# Altium footprint library Bat.PcbLib: 5 footprints
Each footprint in its own frame and in the unit in brackets; x right, y up, seen from the top. Pads: shape width x height; smd on the part's side, far side on the other; paste and mask are expansions set on the pad; w line width, h text height; cw(c..) or ccw(c..) is an arc to the next point about the centre after c.
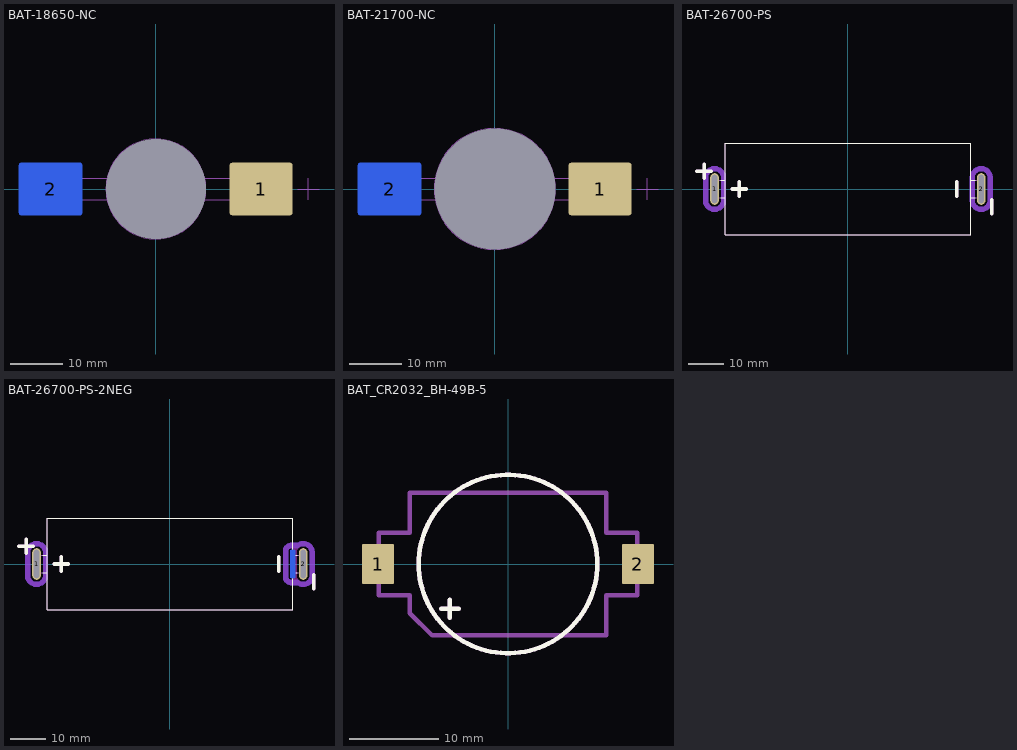
[diagram p0: the footprints below, top view; thin cyan lines are the x and y axes]

## BAT-18650-NC [mm] "Hole for 18650 with two solder Pads for FSCH nightcone project"
pads (3):
  rrect10% 12x10 smd paste-2539.97: 1(20,0)
  rrect10% 12x10 smd far side paste-2539.97: 2(-20,0)
  round 1.4 hole 19 unplated: M15(0,0)
Board:
  circle w0.1: c0,0 r9.5
  text "CUTOUT" at -1.602,9.162 h5
Top Assembly:
  lines w0.2: 27,0 31,0 ; 29,-2 29,2 ; 8.775,-2 cw(c0,0) 8.775,2 ; 8.775,-2 -2,-2 -2,2 8.775,2 ; 8.775,-2 24,-2 24,2 8.775,2
Bottom Assembly (Mech12):
  lines w0.2: -8.775,-2 ccw(c0,0) -8.775,2 ; -8.775,-2 -24,-2 -24,2 -8.775,2 ; -8.775,-2 2,-2 2,2 -8.775,2
3D body: height -57, standoff -57.5, extent -10.5,-2 -10,2
3D body: height 0.5, standoff 0, extent -10.5,-2 -10,2
3D body: height 8.5, standoff 8, extent 10,-2 10.5,2
3D body: height 0.5, standoff 0, extent 10,-2 10.5,2
3D body: height 8.5, standoff 8, extent -2,-2 10.25,2
3D body: height 0.5, standoff 0, extent 10.25,-2 24,2
3D body: height -57, standoff -57.5, extent -10.25,-2 2,2
3D body: height -10, standoff -57.25, extent -10.5,-2 -10,2
3D body: height 0.5, standoff 0, extent -24,-2 -10.25,2
3D body: height 40, standoff 0.25, extent -10.5,-2 -10,2
3D body: height 8.25, standoff 0.25, extent 10,-2 10.5,2
3D body: height 8, standoff -57, extent -9,-9 9,9

## BAT-21700-NC [mm] "Hole for 21700 with two solder Pads for FSCH nightcone project"
pads (3):
  rrect10% 12x10 smd paste-2539.97: 1(20,0)
  rrect10% 12x10 smd far side paste-2539.97: 2(-20,0)
  round 0 hole 23 unplated: M15(0,0)
Board:
  circle w0.1: c0,0 r11.5
  text "CUTOUT" at -1.922,10.995 h6
Top Assembly:
  lines w0.2: 10.308,-2 cw(c0,0) 10.308,2 ; 27,0 31,0 ; 29,-2 29,2 ; -2,-2 -2,2 8.775,2 24,2 24,-2 8.775,-2 -2,-2
Bottom Assembly (Mech12):
  lines w0.2: -10.305,2 -24,2 -24,-2 -10.295,-2 ; -10.308,-2 ccw(c0,0) -10.308,2 2,2 2,-2 -10.308,-2
3D body: height 8.25, standoff 0.25, extent 11.5,-2 12,2
3D body: height 40, standoff 0.25, extent -12,-2 -11.5,2
3D body: height 0.5, standoff 0, extent -24,-2 -11.75,2
3D body: height -10, standoff -62.25, extent -12,-2 -11.5,2
3D body: height -62, standoff -62.5, extent -11.75,-2 2,2
3D body: height 0.5, standoff 0, extent 11.75,-2 24,2
3D body: height 8.5, standoff 8, extent -2,-2 11.75,2
3D body: height 8, standoff -62, extent -10.5,-10.5 10.5,10.5
3D body: height 0.5, standoff 0, extent 11.5,-2 12,2
3D body: height 8.5, standoff 8, extent 11.5,-2 12,2
3D body: height 0.5, standoff 0, extent -12,-2 -11.5,2
3D body: height -62, standoff -62.5, extent -12,-2 -11.5,2

## BAT-26700-PS [mm]
pads (2):
  oval 2.5x9 hole 1.5 slot 8 at 90 deg: 1(-38,0) 2(38,0)
Top Layer keep-out:
  region: 41.25,-3.25 41.25,3.25 41.25,3.506 41.17,4.011 41.012,4.498 40.78,4.953 40.479,5.367 40.117,5.729 39.703,6.03 39.248,6.262 38.761,6.42 38.256,6.5 37.744,6.5 37.239,6.42 36.752,6.262 36.297,6.03 35.883,5.729 35.521,5.367 35.22,4.953 34.988,4.498 34.83,4.011 34.75,3.506 34.75,3.25 34.75,0 36.15,0 36.15,3.25 36.159,3.431 36.23,3.787 36.368,4.122 36.57,4.424 36.826,4.68 37.128,4.882 37.463,5.02 37.819,5.091 38.181,5.091 38.537,5.02 38.872,4.882 39.174,4.68 39.43,4.424 39.632,4.122 39.77,3.787 39.841,3.431 39.85,3.25 39.85,-3.25 39.841,-3.431 39.77,-3.787 39.632,-4.122 39.43,-4.424 39.174,-4.68 38.872,-4.882 38.537,-5.02 38.181,-5.091 37.819,-5.091 37.463,-5.02 37.128,-4.882 36.826,-4.68 36.57,-4.424 36.368,-4.122 36.23,-3.787 36.159,-3.431 36.15,-3.25 36.15,0 34.75,0 34.75,-3.25 34.75,-3.506 34.83,-4.011 34.988,-4.498 35.22,-4.953 35.521,-5.367 35.883,-5.729 36.297,-6.03 36.752,-6.262 37.239,-6.42 37.744,-6.5 38.256,-6.5 38.761,-6.42 39.248,-6.262 39.703,-6.03 40.117,-5.729 40.479,-5.367 40.78,-4.953 41.012,-4.498 41.17,-4.011 41.25,-3.506
  region: -41.25,3.25 -41.25,-3.25 -41.25,-3.506 -41.17,-4.011 -41.012,-4.498 -40.78,-4.953 -40.479,-5.367 -40.117,-5.729 -39.703,-6.03 -39.248,-6.262 -38.761,-6.42 -38.256,-6.5 -37.744,-6.5 -37.239,-6.42 -36.752,-6.262 -36.297,-6.03 -35.883,-5.729 -35.521,-5.367 -35.22,-4.953 -34.988,-4.498 -34.83,-4.011 -34.75,-3.506 -34.75,-3.25 -34.75,0 -36.15,0 -36.15,-3.25 -36.159,-3.431 -36.23,-3.787 -36.368,-4.122 -36.57,-4.424 -36.826,-4.68 -37.128,-4.882 -37.463,-5.02 -37.819,-5.091 -38.181,-5.091 -38.537,-5.02 -38.872,-4.882 -39.174,-4.68 -39.43,-4.424 -39.632,-4.122 -39.77,-3.787 -39.841,-3.431 -39.85,-3.25 -39.85,3.25 -39.841,3.431 -39.77,3.787 -39.632,4.122 -39.43,4.424 -39.174,4.68 -38.872,4.882 -38.537,5.02 -38.181,5.091 -37.819,5.091 -37.463,5.02 -37.128,4.882 -36.826,4.68 -36.57,4.424 -36.368,4.122 -36.23,3.787 -36.159,3.431 -36.15,3.25 -36.15,0 -34.75,0 -34.75,3.25 -34.75,3.506 -34.83,4.011 -34.988,4.498 -35.22,4.953 -35.521,5.367 -35.883,5.729 -36.297,6.03 -36.752,6.262 -37.239,6.42 -37.744,6.5 -38.256,6.5 -38.761,6.42 -39.248,6.262 -39.703,6.03 -40.117,5.729 -40.479,5.367 -40.78,4.953 -41.012,4.498 -41.17,4.011 -41.25,3.506
Bottom Layer keep-out:
  region: 41.25,-3.25 41.25,3.25 41.25,3.506 41.17,4.011 41.012,4.498 40.78,4.953 40.479,5.367 40.117,5.729 39.703,6.03 39.248,6.262 38.761,6.42 38.256,6.5 37.744,6.5 37.239,6.42 36.752,6.262 36.297,6.03 35.883,5.729 35.521,5.367 35.22,4.953 34.988,4.498 34.83,4.011 34.75,3.506 34.75,3.25 34.75,0 36.15,0 36.15,3.25 36.159,3.431 36.23,3.787 36.368,4.122 36.57,4.424 36.826,4.68 37.128,4.882 37.463,5.02 37.819,5.091 38.181,5.091 38.537,5.02 38.872,4.882 39.174,4.68 39.43,4.424 39.632,4.122 39.77,3.787 39.841,3.431 39.85,3.25 39.85,-3.25 39.841,-3.431 39.77,-3.787 39.632,-4.122 39.43,-4.424 39.174,-4.68 38.872,-4.882 38.537,-5.02 38.181,-5.091 37.819,-5.091 37.463,-5.02 37.128,-4.882 36.826,-4.68 36.57,-4.424 36.368,-4.122 36.23,-3.787 36.159,-3.431 36.15,-3.25 36.15,0 34.75,0 34.75,-3.25 34.75,-3.506 34.83,-4.011 34.988,-4.498 35.22,-4.953 35.521,-5.367 35.883,-5.729 36.297,-6.03 36.752,-6.262 37.239,-6.42 37.744,-6.5 38.256,-6.5 38.761,-6.42 39.248,-6.262 39.703,-6.03 40.117,-5.729 40.479,-5.367 40.78,-4.953 41.012,-4.498 41.17,-4.011 41.25,-3.506
  region: -41.25,3.25 -41.25,-3.25 -41.25,-3.506 -41.17,-4.011 -41.012,-4.498 -40.78,-4.953 -40.479,-5.367 -40.117,-5.729 -39.703,-6.03 -39.248,-6.262 -38.761,-6.42 -38.256,-6.5 -37.744,-6.5 -37.239,-6.42 -36.752,-6.262 -36.297,-6.03 -35.883,-5.729 -35.521,-5.367 -35.22,-4.953 -34.988,-4.498 -34.83,-4.011 -34.75,-3.506 -34.75,-3.25 -34.75,0 -36.15,0 -36.15,-3.25 -36.159,-3.431 -36.23,-3.787 -36.368,-4.122 -36.57,-4.424 -36.826,-4.68 -37.128,-4.882 -37.463,-5.02 -37.819,-5.091 -38.181,-5.091 -38.537,-5.02 -38.872,-4.882 -39.174,-4.68 -39.43,-4.424 -39.632,-4.122 -39.77,-3.787 -39.841,-3.431 -39.85,-3.25 -39.85,3.25 -39.841,3.431 -39.77,3.787 -39.632,4.122 -39.43,4.424 -39.174,4.68 -38.872,4.882 -38.537,5.02 -38.181,5.091 -37.819,5.091 -37.463,5.02 -37.128,4.882 -36.826,4.68 -36.57,4.424 -36.368,4.122 -36.23,3.787 -36.159,3.431 -36.15,3.25 -36.15,0 -34.75,0 -34.75,3.25 -34.75,3.506 -34.83,4.011 -34.988,4.498 -35.22,4.953 -35.521,5.367 -35.883,5.729 -36.297,6.03 -36.752,6.262 -37.239,6.42 -37.744,6.5 -38.256,6.5 -38.761,6.42 -39.248,6.262 -39.703,6.03 -40.117,5.729 -40.479,5.367 -40.78,4.953 -41.012,4.498 -41.17,4.011 -41.25,3.506
Top Overlay:
  lines w0.2: -36.3,-2.5 -35,-2.5 ; -36.3,2.5 -35,2.5 ; 35,-2.5 36.3,-2.5 ; 35,2.5 36.3,2.5 ; -35,-13 -35,13 35,13 35,-13 -35,-13
  lines w1: -43,5 -39,5 ; -41,3 -41,7 ; -33,0 -29,0 ; -31,-2 -31,2 ; 31,-2 31,2 ; 41,-7 41,-3
Top Assembly:
  lines w0.2: -35,-2.5 -38.2,-2.5 -38.2,2.5 -35,2.5 ; 35,-2.5 38.2,-2.5 38.2,2.5 35,2.5 ; -35,-13 -35,13 35,13 35,-13 -35,-13
  lines w1: -43,5 -39,5 ; -41,3 -41,7 ; -33,0 -29,0 ; -31,-2 -31,2 ; 31,-2 31,2 ; 41,-7 41,-3
3D body: height 18.31, standoff -2.99, extent 35.1,-2.5 38.3,2.5
3D body: height 18.31, standoff -2.99, extent -38.3,-2.5 -35.1,2.5
3D body: height 26.3, standoff 4.3, extent 35,-11 35.1,11
3D body: height 23.3, standoff 7.3, extent -35.1,-8 -35,8
3D body: height 28.3, standoff 2.3, extent -35,-13 35,13

## BAT-26700-PS-2NEG [mm]
pads (3):
  oval 2.5x9 hole 1.5 slot 8 at 90 deg: 1(-38,0) 2(38,0)
  rrect50% 1.5x8 smd far side paste-2539.97: 3(35,0)
Top Layer keep-out:
  region: 41.25,-3.25 41.25,3.25 41.25,3.506 41.17,4.011 41.012,4.498 40.78,4.953 40.479,5.367 40.117,5.729 39.703,6.03 39.248,6.262 38.761,6.42 38.256,6.5 37.744,6.5 37.239,6.42 36.752,6.262 36.297,6.03 35.883,5.729 35.521,5.367 35.22,4.953 34.988,4.498 34.83,4.011 34.75,3.506 34.75,3.25 34.75,0 36.15,0 36.15,3.25 36.159,3.431 36.23,3.787 36.368,4.122 36.57,4.424 36.826,4.68 37.128,4.882 37.463,5.02 37.819,5.091 38.181,5.091 38.537,5.02 38.872,4.882 39.174,4.68 39.43,4.424 39.632,4.122 39.77,3.787 39.841,3.431 39.85,3.25 39.85,-3.25 39.841,-3.431 39.77,-3.787 39.632,-4.122 39.43,-4.424 39.174,-4.68 38.872,-4.882 38.537,-5.02 38.181,-5.091 37.819,-5.091 37.463,-5.02 37.128,-4.882 36.826,-4.68 36.57,-4.424 36.368,-4.122 36.23,-3.787 36.159,-3.431 36.15,-3.25 36.15,0 34.75,0 34.75,-3.25 34.75,-3.506 34.83,-4.011 34.988,-4.498 35.22,-4.953 35.521,-5.367 35.883,-5.729 36.297,-6.03 36.752,-6.262 37.239,-6.42 37.744,-6.5 38.256,-6.5 38.761,-6.42 39.248,-6.262 39.703,-6.03 40.117,-5.729 40.479,-5.367 40.78,-4.953 41.012,-4.498 41.17,-4.011 41.25,-3.506
  region: -41.25,3.25 -41.25,-3.25 -41.25,-3.506 -41.17,-4.011 -41.012,-4.498 -40.78,-4.953 -40.479,-5.367 -40.117,-5.729 -39.703,-6.03 -39.248,-6.262 -38.761,-6.42 -38.256,-6.5 -37.744,-6.5 -37.239,-6.42 -36.752,-6.262 -36.297,-6.03 -35.883,-5.729 -35.521,-5.367 -35.22,-4.953 -34.988,-4.498 -34.83,-4.011 -34.75,-3.506 -34.75,-3.25 -34.75,0 -36.15,0 -36.15,-3.25 -36.159,-3.431 -36.23,-3.787 -36.368,-4.122 -36.57,-4.424 -36.826,-4.68 -37.128,-4.882 -37.463,-5.02 -37.819,-5.091 -38.181,-5.091 -38.537,-5.02 -38.872,-4.882 -39.174,-4.68 -39.43,-4.424 -39.632,-4.122 -39.77,-3.787 -39.841,-3.431 -39.85,-3.25 -39.85,3.25 -39.841,3.431 -39.77,3.787 -39.632,4.122 -39.43,4.424 -39.174,4.68 -38.872,4.882 -38.537,5.02 -38.181,5.091 -37.819,5.091 -37.463,5.02 -37.128,4.882 -36.826,4.68 -36.57,4.424 -36.368,4.122 -36.23,3.787 -36.159,3.431 -36.15,3.25 -36.15,0 -34.75,0 -34.75,3.25 -34.75,3.506 -34.83,4.011 -34.988,4.498 -35.22,4.953 -35.521,5.367 -35.883,5.729 -36.297,6.03 -36.752,6.262 -37.239,6.42 -37.744,6.5 -38.256,6.5 -38.761,6.42 -39.248,6.262 -39.703,6.03 -40.117,5.729 -40.479,5.367 -40.78,4.953 -41.012,4.498 -41.17,4.011 -41.25,3.506
Bottom Layer keep-out:
  region: -41.25,3.25 -41.25,-3.25 -41.25,-3.506 -41.17,-4.011 -41.012,-4.498 -40.78,-4.953 -40.479,-5.367 -40.117,-5.729 -39.703,-6.03 -39.248,-6.262 -38.761,-6.42 -38.256,-6.5 -37.744,-6.5 -37.239,-6.42 -36.752,-6.262 -36.297,-6.03 -35.883,-5.729 -35.521,-5.367 -35.22,-4.953 -34.988,-4.498 -34.83,-4.011 -34.75,-3.506 -34.75,-3.25 -34.75,0 -36.15,0 -36.15,-3.25 -36.159,-3.431 -36.23,-3.787 -36.368,-4.122 -36.57,-4.424 -36.826,-4.68 -37.128,-4.882 -37.463,-5.02 -37.819,-5.091 -38.181,-5.091 -38.537,-5.02 -38.872,-4.882 -39.174,-4.68 -39.43,-4.424 -39.632,-4.122 -39.77,-3.787 -39.841,-3.431 -39.85,-3.25 -39.85,3.25 -39.841,3.431 -39.77,3.787 -39.632,4.122 -39.43,4.424 -39.174,4.68 -38.872,4.882 -38.537,5.02 -38.181,5.091 -37.819,5.091 -37.463,5.02 -37.128,4.882 -36.826,4.68 -36.57,4.424 -36.368,4.122 -36.23,3.787 -36.159,3.431 -36.15,3.25 -36.15,0 -34.75,0 -34.75,3.25 -34.75,3.506 -34.83,4.011 -34.988,4.498 -35.22,4.953 -35.521,5.367 -35.883,5.729 -36.297,6.03 -36.752,6.262 -37.239,6.42 -37.744,6.5 -38.256,6.5 -38.761,6.42 -39.248,6.262 -39.703,6.03 -40.117,5.729 -40.479,5.367 -40.78,4.953 -41.012,4.498 -41.17,4.011 -41.25,3.506
  region: 33.75,-3.65 33.75,0 32.25,0 32.25,-3.65 32.25,-3.881 32.34,-4.335 32.517,-4.763 32.775,-5.148 33.102,-5.475 33.487,-5.733 33.915,-5.91 34.369,-6 34.6,-6 36.268,-6 36.452,-6.116 36.846,-6.296 37.261,-6.422 37.689,-6.492 38.123,-6.505 38.555,-6.46 38.976,-6.357 39.381,-6.2 39.76,-5.99 40.109,-5.732 40.42,-5.43 40.689,-5.089 40.909,-4.715 41.078,-4.316 41.192,-3.897 41.25,-3.467 41.25,-3.25 41.25,3.25 41.25,3.467 41.192,3.897 41.078,4.316 40.909,4.715 40.689,5.089 40.42,5.43 40.109,5.732 39.76,5.991 39.381,6.2 38.976,6.358 38.555,6.46 38.123,6.505 37.689,6.492 37.261,6.422 36.846,6.296 36.451,6.116 36.268,6 34.6,6 34.369,6 33.915,5.91 33.487,5.733 33.102,5.475 32.775,5.148 32.517,4.763 32.34,4.335 32.25,3.881 32.25,3.65 32.25,0 33.75,0 33.75,3.65 33.754,3.733 33.787,3.897 33.85,4.051 33.943,4.189 34.061,4.307 34.199,4.4 34.353,4.463 34.517,4.496 34.6,4.5 36.636,4.5 36.768,4.63 37.066,4.847 37.402,5.001 37.762,5.085 38.131,5.095 38.495,5.032 38.839,4.899 39.15,4.699 39.415,4.442 39.624,4.137 39.767,3.797 39.841,3.435 39.85,3.25 39.85,-3.25 39.841,-3.435 39.767,-3.797 39.624,-4.137 39.415,-4.442 39.15,-4.699 38.839,-4.899 38.495,-5.033 38.131,-5.095 37.762,-5.085 37.402,-5.001 37.066,-4.847 36.768,-4.63 36.636,-4.5 34.6,-4.5 34.517,-4.496 34.353,-4.463 34.199,-4.4 34.061,-4.307 33.943,-4.189 33.85,-4.051 33.787,-3.897 33.754,-3.733
Top Overlay:
  lines w0.2: -36.3,-2.5 -35,-2.5 ; -36.3,2.5 -35,2.5 ; 35,-2.5 36.3,-2.5 ; 35,2.5 36.3,2.5 ; -35,-13 35,-13 35,13 -35,13 -35,-13
  lines w1: -43,5 -39,5 ; -41,3 -41,7 ; -33,0 -29,0 ; -31,-2 -31,2 ; 31,-2 31,2 ; 41,-7 41,-3
Top Assembly:
  lines w0.2: -35,-2.5 -38.2,-2.5 -38.2,2.5 -35,2.5 ; 35,-2.5 38.2,-2.5 38.2,2.5 35,2.5 ; -35,-13 -35,13 35,13 35,-13 -35,-13
  lines w1: -43,5 -39,5 ; -41,3 -41,7 ; -33,0 -29,0 ; -31,-2 -31,2 ; 31,-2 31,2 ; 41,-7 41,-3
Bottom Assembly (Mech12):
  lines w0.2: 35,-2.5 35,2.5 38.2,2.5 38.2,-2.5 35,-2.5
3D body: height 26.3, standoff 4.3, extent 35,-11 35.1,11
3D body: height 28.3, standoff 2.3, extent -35,-13 35,13
3D body: height 23.3, standoff 7.3, extent -35.1,-8 -35,8
3D body: height 18.31, standoff -2.99, extent -38.3,-2.5 -35.1,2.5
3D body: height 18.31, standoff 0.01, extent 35.1,-2.5 38.3,2.5
3D body: height 0.32, standoff -1.58, extent 35,-2.5 38.3,2.5

## BAT_CR2032_BH-49B-5 [mm]
pads (2):
  rrect10% 3.6x4.5 smd: 1(-14.55,0) 2(14.55,0)
Top Overlay:
  circle w0.5: c0,0 r10
  lines w0.5: -7.5,-5 -5.5,-5 ; -6.5,-6 -6.5,-4
Top Assembly:
  circle w0.5: c0,0 r10
  lines w0.5: -7.5,-5 -5.5,-5 ; -6.5,-6 -6.5,-4 ; -14.5,-3.5 -11,-3.5 -11,-5.5 -8.5,-8 11,-8 11,-3.5 14.5,-3.5 14.5,3.5 11,3.5 11,8 -11,8 -11,3.5 -14.5,3.5 -14.5,-3.5
3D body "BAT_CR2032_BH-49B-5.ipt.stp": height 5, standoff -0.1, extent -15.85,-8 15.85,8